# EAGLE library part AD9117 (library Analog Devices)
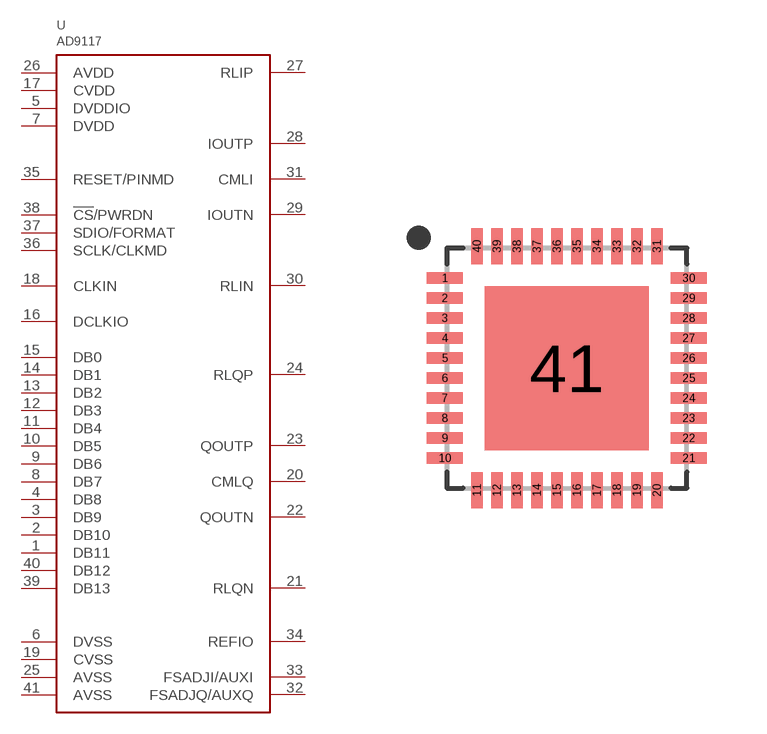
[diagram p22: symbol with the pads of QFN40; footprint QFN40]

Designator prefix U

## AD9117  [QFN40]
1  DB11
2  DB10
3  DB9
4  DB8
5  DVDDIO
6  DVSS
7  DVDD
8  DB7
9  DB6
10  DB5
11  DB4
12  DB3
13  DB2
14  DB1
15  DB0
16  DCLKIO
17  CVDD
18  CLKIN
19  CVSS
20  CMLQ
21  RLQN
22  QOUTN
23  QOUTP
24  RLQP
25  AVSS
26  AVDD
27  RLIP
28  IOUTP
29  IOUTN
30  RLIN
31  CMLI
32  FSADJQ/AUXQ
33  FSADJI/AUXI
34  REFIO
35  RESET/PINMD
36  SCLK/CLKMD
37  SDIO/FORMAT
38  !CS!/PWRDN
39  DB13
40  DB12
41  AVSS

## Footprint QFN40 (pad centres in mm)
smd 0.9 x 0.29: 1 -3.05,2.25; 2 -3.05,1.75; 3 -3.05,1.25; 4 -3.05,0.75; 5 -3.05,0.25; 6 -3.05,-0.25; 7 -3.05,-0.75; 8 -3.05,-1.25; 9 -3.05,-1.75; 10 -3.05,-2.25; 21 3.05,-2.25; 22 3.05,-1.75; 23 3.05,-1.25; 24 3.05,-0.75; 25 3.05,-0.25; 26 3.05,0.25; 27 3.05,0.75; 28 3.05,1.25; 29 3.05,1.75; 30 3.05,2.25
smd 0.29 x 0.9: 11 -2.25,-3.05; 12 -1.75,-3.05; 13 -1.25,-3.05; 14 -0.75,-3.05; 15 -0.25,-3.05; 16 0.25,-3.05; 17 0.75,-3.05; 18 1.25,-3.05; 19 1.75,-3.05; 20 2.25,-3.05; 31 2.25,3.05; 32 1.75,3.05; 33 1.25,3.05; 34 0.75,3.05; 35 0.25,3.05; 36 -0.25,3.05; 37 -0.75,3.05; 38 -1.25,3.05; 39 -1.75,3.05; 40 -2.25,3.05
smd 4.1 x 4.1: 41 0,0